# EAGLE library part 54-00298 (library thefly)
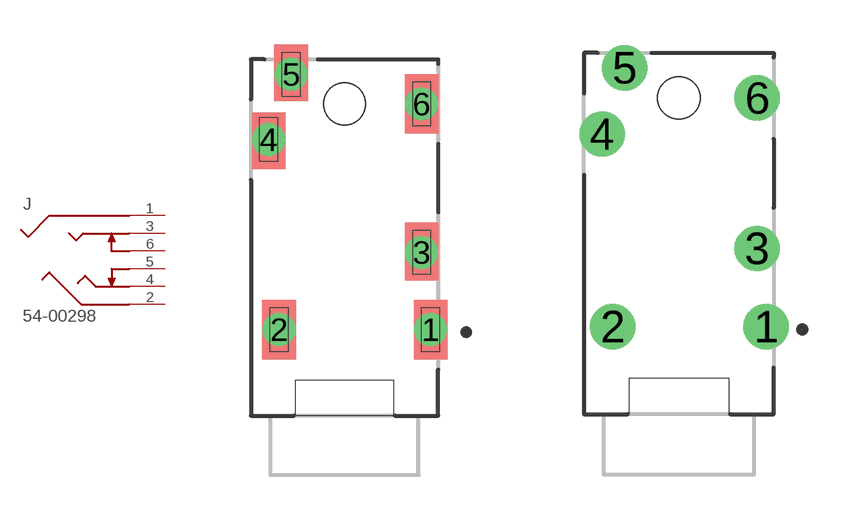
[diagram p2: symbol with the pads of TENSILITY_54-00298; footprints TENSILITY_54-00298, TENSILITY_54-00298_HOLES]

Designator prefix J

## 54-00298 (CHECK_PRICES: https://www.snapeda.com/parts/54-00298/Tensility/view-part/?ref=eda; DESCRIPTION: Connector, 4C audio jack, 3.5xL14 mm, thru hole, gold plated; DIGIKEY_PART_NUMBER: 839-54-00298CT-ND; MF: Tensility International Corp; MP: 54-00298; PACKAGE: None; SNAPEDA_LINK: https://www.snapeda.com/parts/54-00298/Tensility/view-part/?ref=snap)  [TENSILITY_54-00298]
1  1  pas
2  2  pas
3  3  pas
4  4  pas
5  5  pas
6  6  pas

## 54-00298-HOLES  [TENSILITY_54-00298_HOLES]
Pads as for TENSILITY_54-00298

## Footprint TENSILITY_54-00298 (pad centres in mm)
drill 0.6: 1 2.9,-2.1; 2 -2.2,-2.1; 3 2.6,0.5; 4 -2.55,4.3; 5 -1.8,6.5; 6 2.6,5.5
hole 1.4 at 0,5.5

## Footprint TENSILITY_54-00298_HOLES (pad centres in mm)
drill 1: 1 2.9,-2.1; 2 -2.2,-2.1; 3 2.6,0.5; 4 -2.55,4.3; 5 -1.8,6.5; 6 2.6,5.5
hole 1.4 at 0,5.5